# Altium schematic symbol library PCB-Features.SchLib: 1 symbol
Pins are listed as number, name and electrical type; pins without a type are passive.

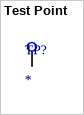
[diagram p0: symbol Test Point]

## Test Point
designator TP?
footprint TP-SMD-50mil (50 mil diameter SMD test point)
footprint TP-SMD-100mil (100 mil diameter SMD test point)
footprint TP-SMD-200mil (200 mil diameter SMD test point)
footprint TP-TH-80mil (80 mil pad, 30 mil hole:  pogo pin test point)
footprint TP-TH-100mil-Keystone (100 mil pad, 40 mil hole:  pogo pin test point)
pins: 1 TP